# EAGLE library part ATARI-MODUL3 (library TF_Atari)
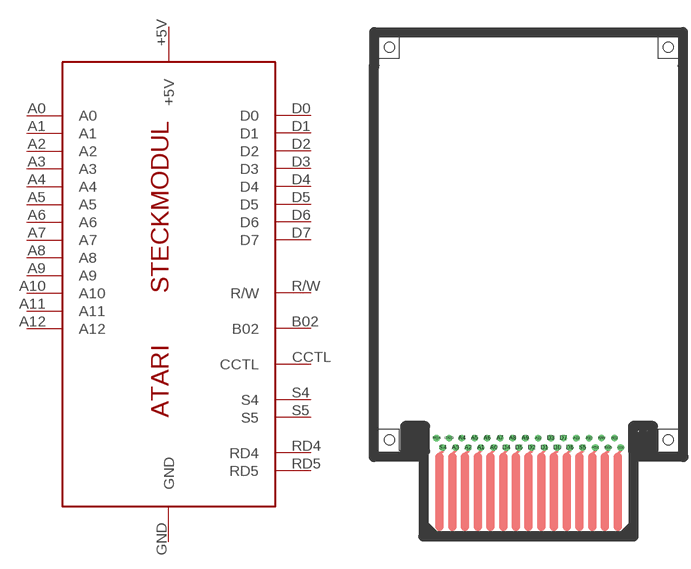
[diagram p9: symbol with the pads of ATARI-MODUL3; footprint ATARI-MODUL3]

Designator prefix -

## ATARI-MODUL3  [ATARI-MODUL3]
+5V  +5V
A0  A0
A1  A1
A2  A2
A3  A3
A4  A4
A5  A5
A6  A6
A7  A7
A8  A8
A9  A9
A10  A10
A11  A11
A12  A12
B02  B02
CCTL  CCTL
D0  D0
D1  D1
D2  D2
D3  D3
D4  D4
D5  D5
D6  D6
D7  D7
GND  GND
R/W  R/W
RD4  RD4
RD5  RD5
S4  S4
S5  S5

## Footprint ATARI-MODUL3 (pad centres in mm)
drill 0.813: +5V 44.025,18.177; A0 23.705,18.177; A1 21.165,18.177; A2 18.625,18.177; A3 16.085,18.177; A4 17.355,20.082; A5 19.895,20.082; A6 22.435,20.082; A7 24.975,20.082; A8 27.515,20.082; A9 30.055,20.082; A10 42.755,20.082; A11 40.215,20.082; A12 32.595,20.082; B02 47.835,20.082; CCTL 49.105,18.177; D0 36.405,18.177; D1 33.865,18.177; D2 31.325,18.177; D3 35.135,20.082; D4 26.245,18.177; D5 28.785,18.177; D6 38.945,18.177; D7 37.675,20.082; GND 14.815,20.082; R/W 45.295,20.082; RD4 12.275,20.082; RD5 46.565,18.177; S4 13.545,18.177; S5 41.485,18.177
hole 2 at 2.857,98.108
hole 2 at 58.538,98.108
hole 2 at 2.857,19.685
hole 2 at 58.538,19.685